# Altium footprint library footprints.PCBLIB: 171 footprints (part 11 of 11)
Each footprint in its own frame and in the unit in brackets; x right, y up, seen from the top. Pads: shape width x height; smd on the part's side, far side on the other; paste and mask are expansions set on the pad; w line width, h text height; cw(c..) or ccw(c..) is an arc to the next point about the centre after c.
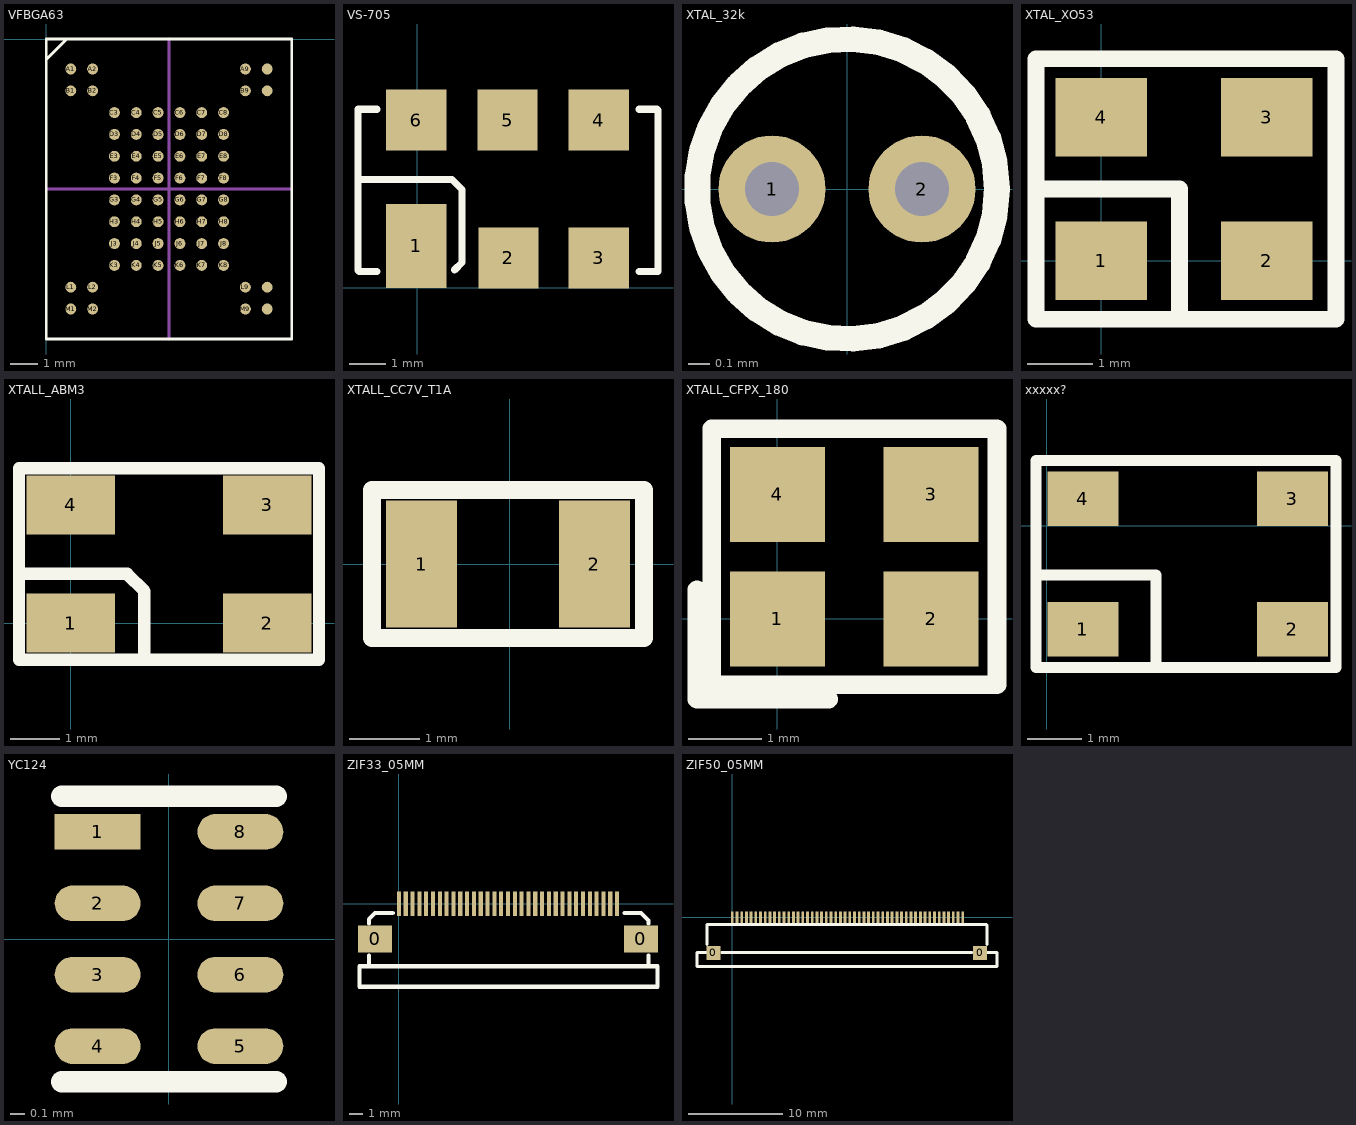
[diagram p10: the footprints below, top view; thin cyan lines are the x and y axes]

## VFBGA63 [mm]
pads (64):
  round 0.4 smd: A1(0.9,-1.1) A2(1.7,-1.1) A9(7.3,-1.1) A10(8.1,-1.1) B1(0.9,-1.9) B2(1.7,-1.9) B9(7.3,-1.9) B10(8.1,-1.9) C3(2.5,-2.7) C4(3.3,-2.7) C5(4.1,-2.7) C6(4.9,-2.7) C7(5.7,-2.7) C8(6.5,-2.7) D3(2.5,-3.5) D4(3.3,-3.5) D5(4.1,-3.5) D6(4.9,-3.5) D7(5.7,-3.5) D8(6.5,-3.5) E3(2.5,-4.3) E4(3.3,-4.3) E5(4.1,-4.3) E6(4.9,-4.3) E7(5.7,-4.3) E8(6.5,-4.3) F3(2.5,-5.1) F4(3.3,-5.1) F5(4.1,-5.1) F6(4.9,-5.1) F7(5.7,-5.1) F8(6.5,-5.1) G3(2.5,-5.9) G4(3.3,-5.9) G5(4.1,-5.9) G6(4.9,-5.9) G7(5.7,-5.9) G8(6.5,-5.9) H3(2.5,-6.7) H4(3.3,-6.7) H5(4.1,-6.7) H6(4.9,-6.7) H7(5.7,-6.7) H8(6.5,-6.7) J3(2.5,-7.5) J4(3.3,-7.5) J5(4.1,-7.5) J6(4.9,-7.5) J7(5.7,-7.5) J8(6.5,-7.5) K3(2.5,-8.3) K4(3.3,-8.3) K5(4.1,-8.3) K6(4.9,-8.3) K7(5.7,-8.3) K8(6.5,-8.3) L1(0.9,-9.1) L2(1.7,-9.1) L9(7.3,-9.1) L10(8.1,-9.1) M1(0.9,-9.9) M2(1.7,-9.9) M9(7.3,-9.9) M10(8.1,-9.9)
Top Overlay:
  lines w0.1: 0,-0.75 0.75,0 ; 0,-11 0,0 9,0 9,-11 0,-11
Mechanical 15:
  lines w0.1: 0,-5.5 9,-5.5 ; 4.2,-5.5 4.8,-5.5 ; 4.5,-11 4.5,0 ; 4.5,-6.15 4.5,-4.85

## VS-705 [mm]
pads (6):
  rect 1.68x2.34 smd: 1(-0.025,1.168)
  rect 1.68x1.7 smd: 2(2.54,0.838) 3(5.055,0.838) 4(5.055,4.674) 5(2.515,4.674) 6(-0.025,4.674)
Top Overlay:
  lines w0.2: -1.651,3.023 0.965,3.023 1.245,2.743 1.245,0.711 1.041,0.508 ; -1.118,0.457 -1.626,0.457 -1.651,0.483 -1.651,4.978 -1.118,4.978 ; 6.172,0.457 6.706,0.457 6.706,4.953 6.68,4.978 6.172,4.978

## XTAL_32k [mm]
pads (2):
  round 0.5 hole 0.25: 1(-0.35,0) 2(0.35,0)
Top Overlay:
  circle w0.12: c0,0 r0.7

## XTAL_XO53 [mm]
pads (4):
  rect 1.4x1.2 smd: 1(0,0) 2(2.54,0) 3(2.54,2.2) 4(0,2.2)
Top Overlay:
  lines w0.254: 1.2,-0.9 1.2,1.1 -1,1.1 -1,3.1 ; -1,3.1 3.6,3.1 3.6,-0.9 -1,-0.9 -1,3.1

## XTALL_ABM3 [mm] "Abracon ABM3 xtal series"
pads (4):
  rect 1.8x1.2 smd: 1(0,0) 2(4,0) 3(4,2.4) 4(0,2.4)
Top Overlay:
  lines w0.254: -1.05,1 1.15,1 1.5,0.65 1.5,-0.75 ; 5,3.15 -1.05,3.15 -1.05,-0.75 5,-0.75 5.05,-0.75 5.05,3.15

## XTALL_CC7V_T1A [mm]
pads (2):
  rect 1x1.8 smd: 1(-1.25,0) 2(1.2,0)
Top Overlay:
  lines w0.254: -1.95,-1.05 -1.95,1.05 -1.85,1.05 1.9,1.05 1.9,-1.05 -1.9,-1.05

## XTALL_CFPX_180 [mm]
pads (4):
  rect 1.3x1.3 smd: 1(0,0) 2(2.1,0) 3(2.1,1.7) 4(0,1.7)
Top Overlay:
  lines w0.254: -1.1,-0.2 -1.1,0.4 ; -1,-0.1 -1.1,-0.1 -1.1,-1.1 -0.2,-1.1 0.7,-1.1 ; -0.7,2.6 3,2.6 3,-0.9 -0.9,-0.9 -0.9,2.6 -0.6,2.6

## xxxxx? [mm]
pads (4):
  rect 1.3x1 smd: 1(0.66,-1.9) 2(4.5,-1.9) 3(4.5,0.5) 4(0.66,0.5)
Top Overlay:
  lines w0.2: -0.1,-0.9 2,-0.9 2,-2.5 ; -0.2,-2.6 5.3,-2.6 5.3,1.2 -0.2,1.2 -0.2,-2.6

## YC124 [mm]
pads (8):
  rect 0.6x0.25 smd: 1(-0.5,0.75)
  oval 0.6x0.25 smd: 2(-0.5,0.25) 3(-0.5,-0.25) 4(-0.5,-0.75) 5(0.5,-0.75) 6(0.5,-0.25) 7(0.5,0.25) 8(0.5,0.75)
Top Overlay:
  lines w0.15: -0.75,-1 0.75,-1 ; -0.75,1 0.75,1

## ZIF33_05MM [mm] "33-pin 0.5mm ZIF"
pads (35):
  rect 2.5x2 smd: 0(-1.75,-2.6) 0(17.75,-2.6)
  rect 0.3x1.8 smd: 1(16,0) 2(15.5,0) 3(15,0) 4(14.5,0) 5(14,0) 6(13.5,0) 7(13,0) 8(12.5,0) 9(12,0) 10(11.5,0) 11(11,0) 12(10.5,0) 13(10,0) 14(9.5,0) 15(9,0) 16(8.5,0) 17(8,0) 18(7.5,0) 19(7,0) 20(6.5,0) 21(6,0) 22(5.5,0) 23(5,0) 24(4.5,0) 25(4,0) 26(3.5,0) 27(3,0) 28(2.5,0) 29(2,0) 30(1.5,0) 31(1,0) 32(0.5,0) 33(0,0)
Top Overlay:
  lines w0.3: -2.9,-4.6 -2.9,-6.1 18.95,-6.1 18.95,-4.6 18.3,-4.6 ; -2.85,-4.6 18.65,-4.6 ; -2.2,-4.6 -2.2,-3.8 ; -2.2,-1.45 -2.2,-1.15 -1.75,-0.7 -0.45,-0.7 ; 16.55,-0.7 17.75,-0.7 18.3,-1.25 18.3,-1.45 ; 18.3,-4.55 18.3,-3.8 ; 18.3,-4.6 18.3,-4.6

## ZIF50_05MM [mm]
pads (52):
  rect 1.5x1.5 smd: 0(-2,-3.8) 0(26.35,-3.8)
  rect 0.3x1.2 smd: 1(0,0) 2(0.5,0) 3(1,0) 4(1.5,0) 5(2,0) 6(2.5,0) 7(3,0) 8(3.5,0) 9(4,0) 10(4.5,0) 11(5,0) 12(5.5,0) 13(6,0) 14(6.5,0) 15(7,0) 16(7.5,0) 17(8,0) 18(8.5,0) 19(9,0) 20(9.5,0) 21(10,0) 22(10.5,0) 23(11,0) 24(11.5,0) 25(12,0) 26(12.5,0) 27(13,0) 28(13.5,0) 29(14,0) 30(14.5,0) 31(15,0) 32(15.5,0) 33(16,0) 34(16.5,0) 35(17,0) 36(17.5,0) 37(18,0) 38(18.5,0) 39(19,0) 40(19.5,0) 41(20,0) 42(20.5,0) 43(21,0) 44(21.5,0) 45(22,0) 46(22.5,0) 47(23,0) 48(23.5,0) 49(24,0) 50(24.5,0)
Top Overlay:
  lines w0.3: -2.7,-3.75 -3.75,-3.75 -3.75,-5.25 28.15,-5.25 28.15,-3.75 27.1,-3.75 ; -2.7,-2.91 -2.7,-0.8 -2.35,-0.8 27.05,-0.8 27.1,-0.85 27.1,-2.92 ; -1.12,-3.75 25.48,-3.75